# EAGLE library part SPV1040 (library spv1040)
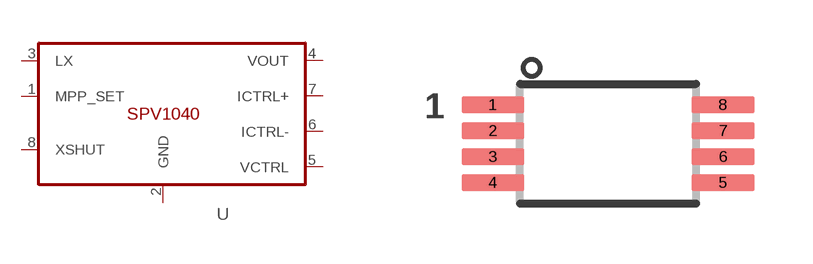
[diagram p0: symbol with the pads of TSSOP-8; footprint TSSOP-8]

Designator prefix U

## SPV1040  [TSSOP-8]
1  MPP_SET  in
2  GND  pwr
3  LX  in
4  VOUT  pwr
5  VCTRL  in
6  ICTRL-  in
7  ICTRL+  in
8  XSHUT  in

## Footprint TSSOP-8 (pad centres in mm)
TSSOP-8 (0.65mm pitch) according to SPV1040 mechanical drawing and PCB Expert Lite @ PCBlibraries.com
smd 1.56 x 0.41: 1 -2.88,0.975; 2 -2.88,0.325; 3 -2.88,-0.325; 4 -2.88,-0.975; 5 2.88,-0.975; 6 2.88,-0.325; 7 2.88,0.325; 8 2.88,0.975